# Altium footprint library Robot_2020.PcbLib: 89 footprints (part 1 of 6)
Each footprint in its own frame and in the unit in brackets; x right, y up, seen from the top. Pads: shape width x height; smd on the part's side, far side on the other; paste and mask are expansions set on the pad; w line width, h text height; cw(c..) or ccw(c..) is an arc to the next point about the centre after c.
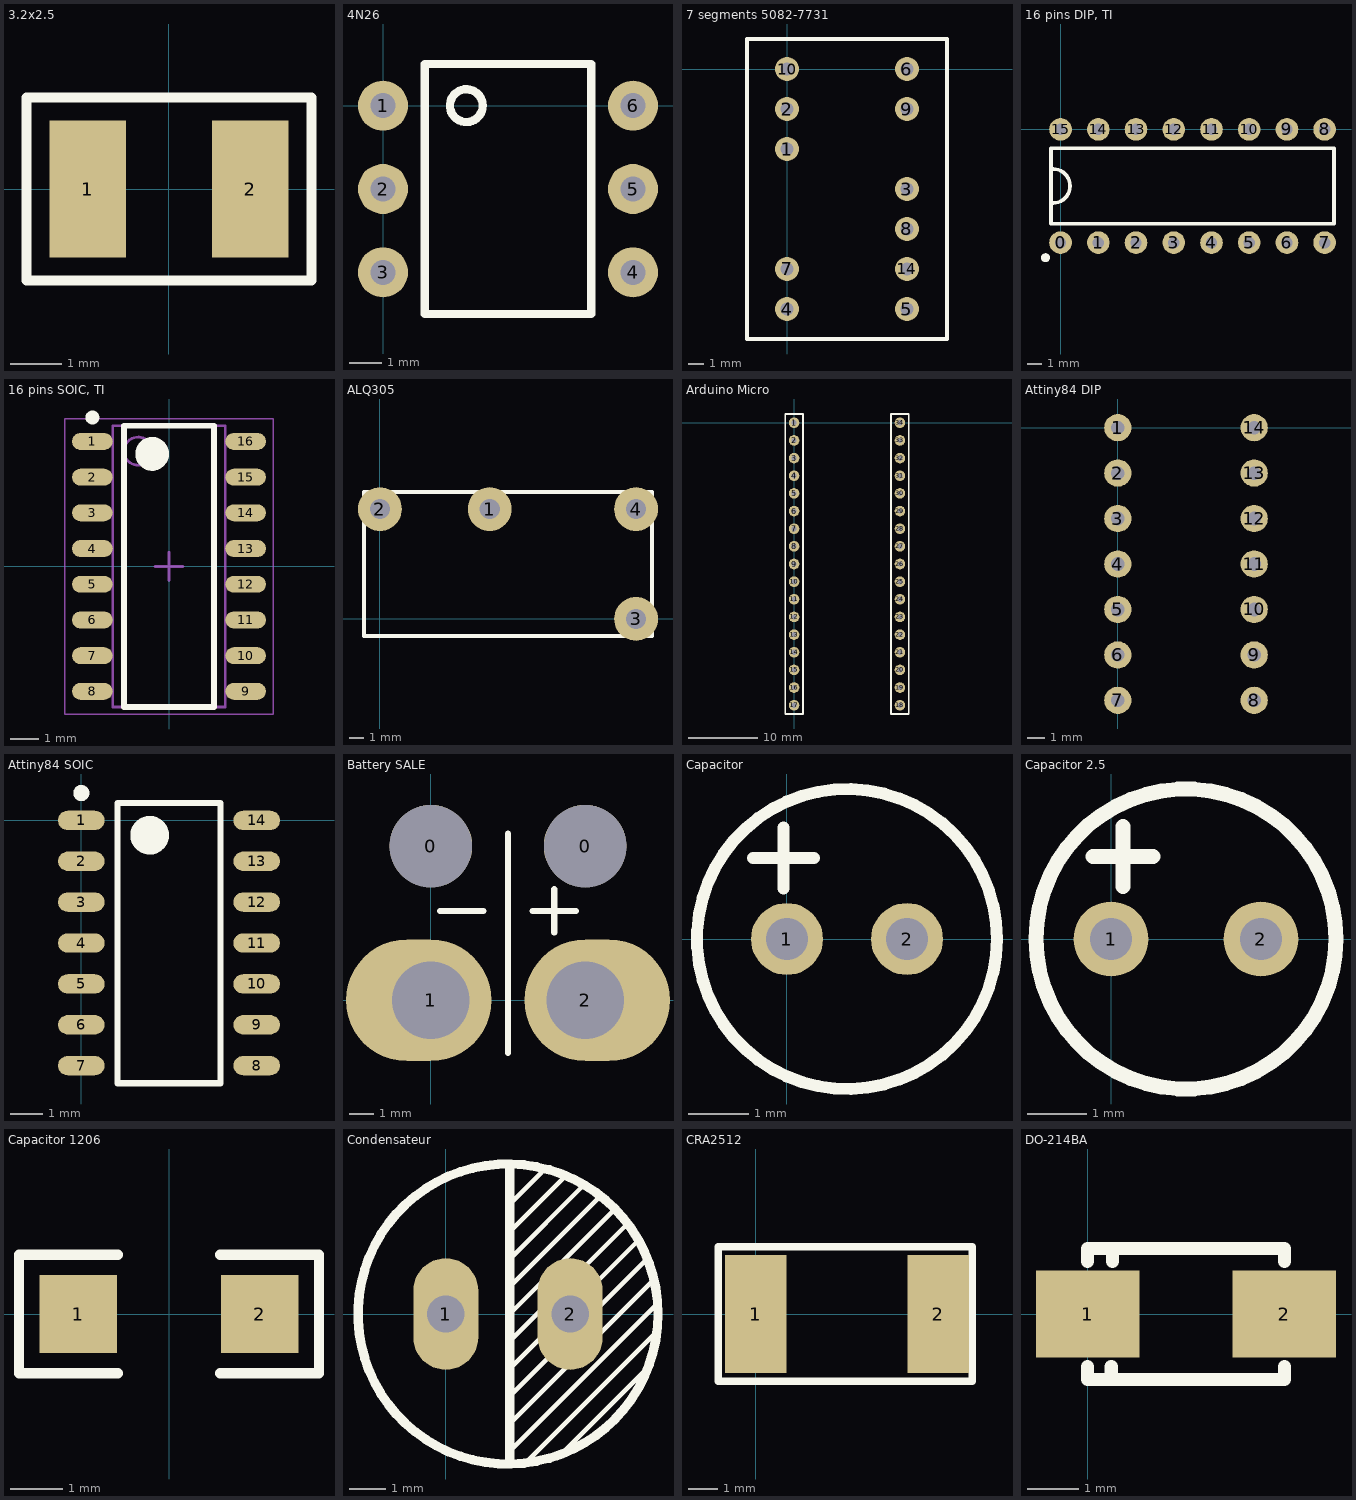
[diagram p0: the footprints below, top view; thin cyan lines are the x and y axes]

## 3.2x2.5 [mm]
pads (2):
  rect 1.5x2.7 smd: 1(-1.6,0) 2(1.6,0)
Top Overlay:
  lines w0.2: -2.8,-1.8 -2.8,0 -2.8,1.8 2.8,1.8 2.8,-1.8 -2.8,-1.8

## 4N26 [mil] "Optocoupler, PDIP"
pads (6):
  round 60 hole 30: 1(0,0) 2(0,-100) 3(0,-200) 4(300,-200) 5(300,-100) 6(300,0)
Top Overlay:
  circle w10: c100,0 r19.68
  lines w10: 50,-250 50,50 250,50 250,-250 50,-250
3D body "DIP_6pins.step": height 179.13, standoff -78.74, extent -5.9,-265.36 305.91,65.35

## 7 segments 5082-7731 [mil] "pour Dpy Red-CA"
height 6.1
pads (11):
  round 60 hole 31.5: 1(0,-200) 2(0,-100) 3(300,-300) 4(0,-600) 5(300,-600) 6(300,0) 7(0,-500) 8(300,-400) 9(300,-100) 10(0,0) 14(300,-500)
Top Overlay:
  lines w10: -100,-675 400,-675 400,75 -100,75 -100,-675
3D body "7_seg_056_inch.step": height 314.96, standoff -157.48, extent -100,-675 400,75

## 16 pins DIP, TI [mil] "Model for 16 pins DIP chip"
height 196.85
pads (16):
  round 60 hole 30: 0(0,-300) 1(100,-300) 2(200,-300) 3(300,-300) 4(400,-300) 5(500,-300) 6(600,-300) 7(700,-300) 8(700,0) 9(600,0) 10(500,0) 11(400,0) 12(300,0) 13(200,0) 14(100,0) 15(0,0)
Top Overlay:
  circle w11.81: c-40,-340 r5.91
  lines w10: -20,-195.07 ccw(c-20,-150) -20,-104.93 ; -25,-250 -25,-50 725,-50 725,-250 -25,-250
3D body "DIP_16.STEP": height 188.98, standoff -98.43, extent -42.91,-304.99 742.92,4.85

## 16 pins SOIC, TI [mm] "SOIC, 16-Leads, Body 9,90x3,90mm, Pitch 1,27mm, IPC Medium Density"
height 1.75
pads (16):
  oval 1.45x0.6 smd: 1(-2.725,4.445) 2(-2.725,3.175) 3(-2.725,1.905) 4(-2.725,0.635) 5(-2.725,-0.635) 6(-2.725,-1.905) 7(-2.725,-3.175) 8(-2.725,-4.445) 9(2.725,-4.445) 10(2.725,-3.175) 11(2.725,-1.905) 12(2.725,-0.635) 13(2.725,0.635) 14(2.725,1.905) 15(2.725,3.175) 16(2.725,4.445)
Top Overlay:
  circle w0.6: c-0.6,4 r0.3
  circle w0.25: c-2.725,5.295 r0.125
  lines w0.2: -1.6,-5 1.6,-5 1.6,5 -1.6,5 -1.6,-5
Mechanical 13:
  circle w0.1: c-1.1,4.1 r0.5
  lines w0.1: -2,-5 2,-5 2,5 -2,5 -2,-5
Mechanical 15:
  lines w0.05: -3.7,-5.25 3.7,-5.25 3.7,5.25 -3.7,5.25 -3.7,-5.25
  lines w0.1: -0.5,0 0.5,0 ; 0,-0.5 0,0.5
3D body "SOIC127P600X175-16N.step": height 1.75, standoff 0, extent -3,-5 3,5

## ALQ305 [mil] "Relay SPST 5V"
pads (4):
  round 120 hole 55: 1(300,300) 2(0,300) 3(700,0) 4(700,300)
Top Overlay:
  lines w10: -43.5,-47 -43.5,347 743.5,347 743.5,-47 -43.5,-47
3D body: height 630, standoff 0, extent -43.48,-46.98 743.48,346.98

## Arduino Micro [mil] "Arduino Micro"
height 314.96
pads (34):
  round 60 hole 30: 1(0,0) 2(0,-100) 3(0,-200) 4(0,-300) 5(0,-400) 6(0,-500) 7(0,-600) 8(0,-700) 9(0,-800) 10(0,-900) 11(0,-1000) 12(0,-1100) 13(0,-1200) 14(0,-1300) 15(0,-1400) 16(0,-1500) 17(0,-1600) 18(600,-1600) 19(600,-1500) 20(600,-1400) 21(600,-1300) 22(600,-1200) 23(600,-1100) 24(600,-1000) 25(600,-900) 26(600,-800) 27(600,-700) 28(600,-600) 29(600,-500) 30(600,-400) 31(600,-300) 32(600,-200) 33(600,-100) 34(600,0)
Top Overlay:
  lines w10: -50,-1650 -50,50 50,50 50,-1650 -50,-1650 ; 550,-1650 550,50 650,50 650,-1650 550,-1650

## Attiny84 DIP [mil] "Attiny84 DIP"
height 210
pads (14):
  round 60 hole 30: 1(0,0) 2(0,-100) 3(0,-200) 4(0,-300) 5(0,-400) 6(0,-500) 7(0,-600) 8(300,-600) 9(300,-500) 10(300,-400) 11(300,-300) 12(300,-200) 13(300,-100) 14(300,0)

## Attiny84 SOIC [mm] "Attiny84 SOIC"
height 1.75
pads (14):
  oval 1.45x0.6 smd: 1(0,0) 2(0,-1.27) 3(0,-2.54) 4(0,-3.81) 5(0,-5.08) 6(0,-6.35) 7(0,-7.62) 8(5.45,-7.62) 9(5.45,-6.35) 10(5.45,-5.08) 11(5.45,-3.81) 12(5.45,-2.54) 13(5.45,-1.27) 14(5.45,0)
Top Overlay:
  circle w0.25: c0,0.85 r0.125
  circle w0.6: c2.125,-0.46 r0.3
  lines w0.2: 1.125,-8.16 1.125,0.54 4.325,0.54 4.325,-8.16 1.125,-8.16
3D body "SO-14_Narrow.stp": height 1.63, standoff 0, extent -0.282,-8.135 5.718,0.565

## Battery SALE [mm] "Connecteur Batterie"
pads (4):
  round 3.4 hole 3.4: 0(0,6.35) 0(6.35,6.35)
  oval 6x5 hole 3.2 copper offset -0.5,0: 1(0,0)
  oval 6x5 hole 3.2 copper offset 0.5,0: 2(6.35,0)
Top Overlay:
  lines w0.254: 0.381,3.683 2.159,3.683 ; 3.175,-2.159 3.175,6.858 ; 4.191,3.683 5.969,3.683 ; 5.08,2.794 5.08,4.572
Bottom Overlay:
  lines w0.254: 0.381,3.683 2.159,3.683 ; 3.175,-2.159 3.175,6.858 ; 4.191,3.683 5.969,3.683 ; 5.08,2.794 5.08,4.572

## Capacitor [mm] "10 - 4.7 uF 2mm"
pads (2):
  round 1.2 hole 0.7: 1(0,0) 2(2,0)
Top Overlay:
  circle w0.2: c1,0 r2.5
  lines w0.2: -0.568,1.35 0.448,1.35 ; -0.06,0.842 -0.06,1.858

## Capacitor 2.5 [mil] "100mil"
pads (2):
  round 50 hole 28: 1(0,0) 2(100,0)
Top Overlay:
  circle w10: c50,0 r100
  lines w10: -12.13,55.12 27.87,55.12 ; 7.87,35.12 7.87,75.12

## Capacitor 1206 [mm]
pads (2):
  rect 1.5x1.5 smd: 1(-1.75,0) 2(1.75,0)
Top Overlay:
  lines w0.2: -0.988,-1.143 -2.893,-1.143 -2.893,1.143 -0.988,1.143 ; 0.988,-1.143 2.893,-1.143 2.893,1.143 0.988,1.143
3D body "CAPC1206.STEP": height 1.3, standoff -0.01, extent -1.977,-0.987 1.977,0.965

## Condensateur [mil]
pads (2):
  oval 70x120 hole 40: 1(0,0) 2(133.86,0)
Top Overlay:
  circle w10: c66.93,0 r161.42
  lines w5: 68.9,-147.64 225.77,9.23 ; 68.9,-118.11 221,34 ; 68.9,-88.58 216.24,58.76 ; 68.9,-59.06 206.48,78.52 ; 68.9,-29.53 194.21,95.79 ; 68.9,0 179.45,110.55 ; 68.9,29.53 167.32,127.95 ; 68.9,59.06 147.64,137.8 ; 68.9,88.58 127.95,147.64 ; 68.9,118.11 103.35,152.56 ; 85.53,-160.53 225.53,-20.53 ; 120,-155 215,-60
  lines w10: 68.9,-157.48 68.9,157.48 ; 68.9,88.58 68.9,88.58
3D body "Cond_100uF_50V.stp": height 500, standoff -147, extent -93.07,-159.99 227.03,160.1

## CRA2512 [mm] "Power resistor, 0,1 Ohm, 3W (693-4394)"
pads (2):
  rect 2.1x4 smd: 1(0,0) 2(6.2,0)
Top Overlay:
  lines w0.254: -1.27,-2.286 -1.27,2.286 7.366,2.286 7.366,-2.286 -1.27,-2.286
3D body "CRA2520.step": height 0.6, standoff 0, extent -0.152,-1.626 6.248,1.574

## DO-214BA [mm] "DO-214BA (GF1)"
pads (2):
  rect 2x1.68 smd: 1(0,0) 2(3.81,0)
Top Overlay:
  lines w0.254: 0,-1.016 0,-1.27 3.81,-1.27 3.81,-1.016 ; 0,1.016 0,1.27 3.81,1.27 3.81,1.016 ; 0.457,-1.27 0.457,-1.016 ; 0.483,1.016 0.483,1.27
3D body "diode_172mil_chip1210.STEP": height 2.35, standoff 0.01, extent -0.545,-1.33 4.3,1.335